# Altium schematic symbol library MyLib.SchLib: 4 symbols
Pins are listed as number, name and electrical type; pins without a type are passive.

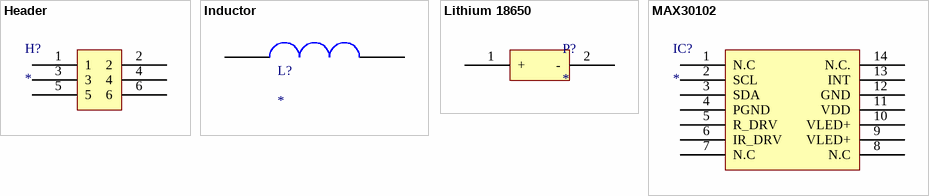
[diagram p0: symbols Header to MAX30102]

## Header
designator H?
pins: 1, 2, 3, 4, 5, 6

## Inductor
designator L?
footprint Inductor
pins: 1, 2

## Lithium 18650
designator P?
footprint 18650_Lithium
pins: 1 +, 2 - (power)

## MAX30102
designator IC?
footprint Max30102
pins: 1 N.C, 2 SCL, 3 SDA, 4 PGND, 5 R_DRV, 6 IR_DRV, 7 N.C, 8 N.C, 9 VLED+, 10 VLED+, 11 VDD, 12 GND, 13 INT, 14 N.C.